# Altium footprint library Discrete Semiconductors Pad Lib.PcbLib: 56 footprints (part 1 of 4)
Each footprint in its own frame and in the unit in brackets; x right, y up, seen from the top. Pads: shape width x height; smd on the part's side, far side on the other; paste and mask are expansions set on the pad; w line width, h text height; cw(c..) or ccw(c..) is an arc to the next point about the centre after c.
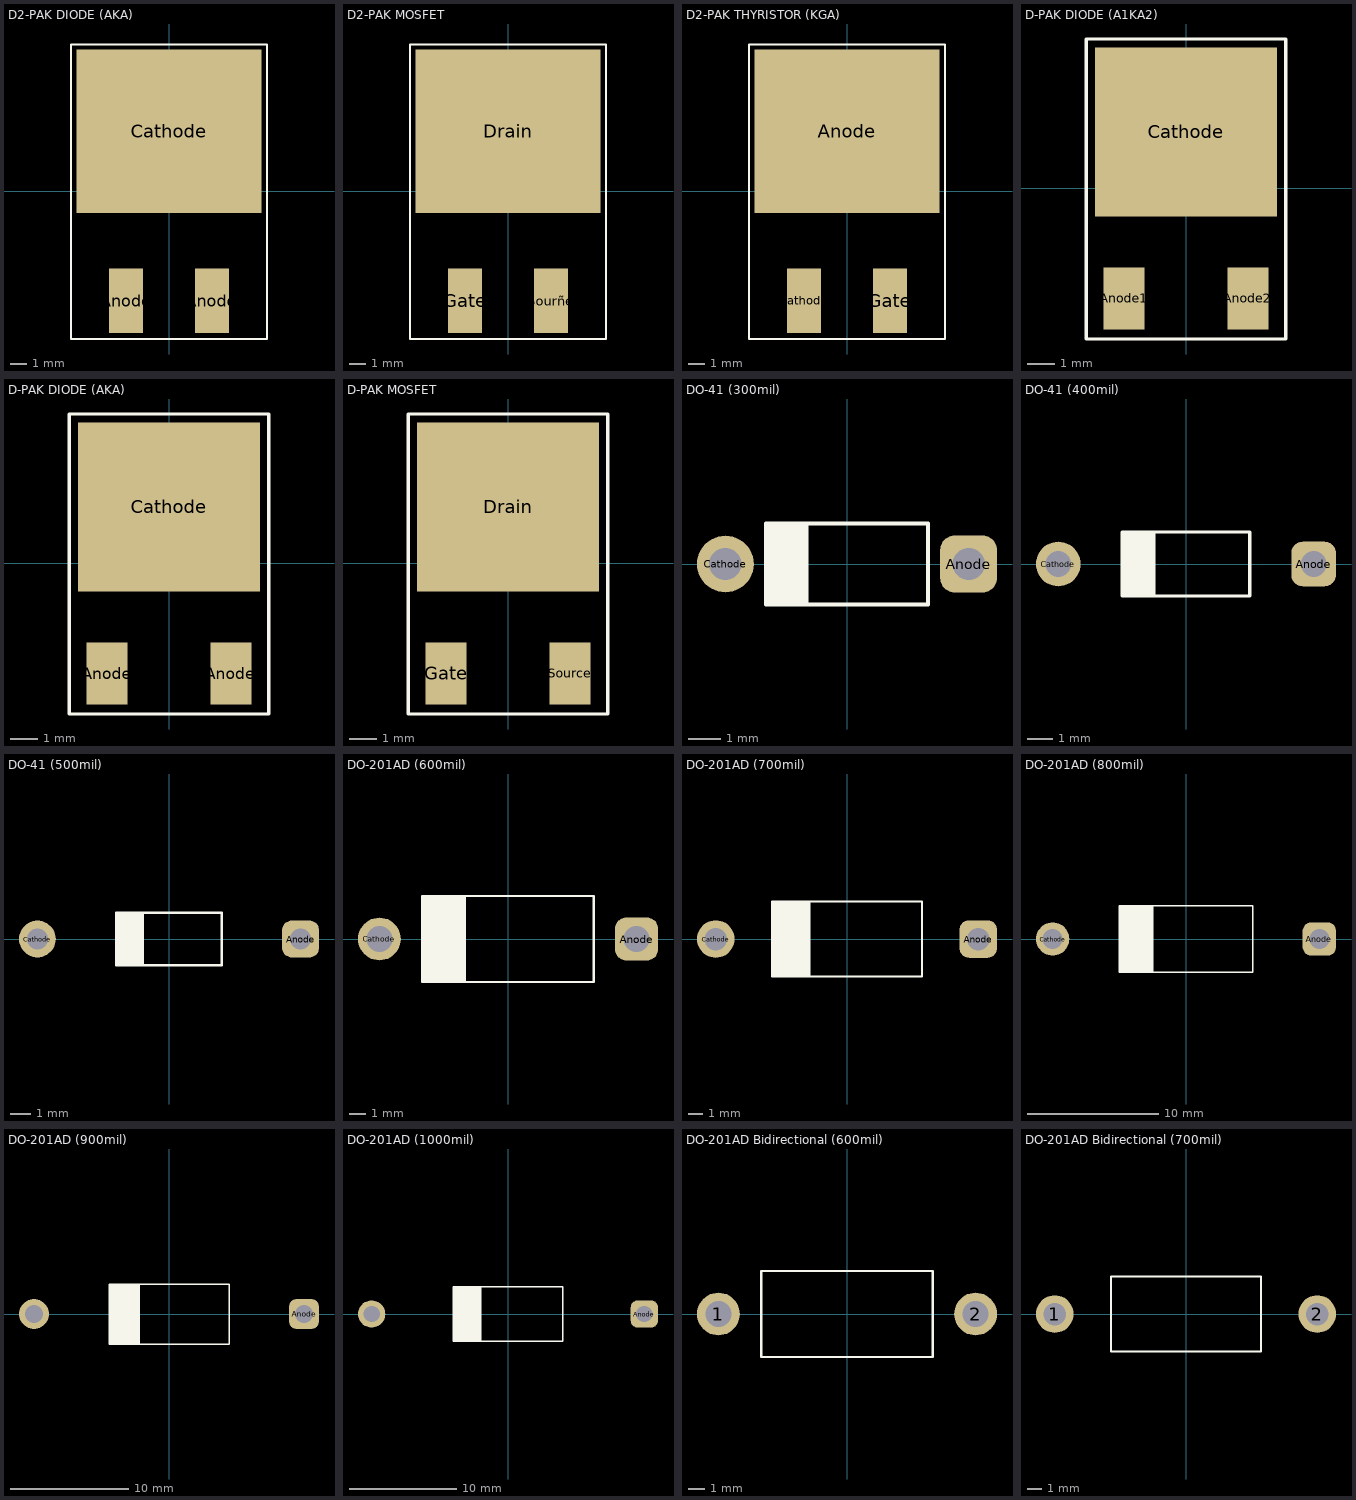
[diagram p0: the footprints below, top view; thin cyan lines are the x and y axes]

## D2-PAK DIODE (AKA) [mil] "Single Diode D2-PAK (TO-262AA)"
pads (3):
  rect 80x150 smd: Anode(-100,-255) Anode(100,-255)
  rect 430x380 smd: Cathode(0,140)
Top Overlay:
  lines w5: -228,-344 228,-344 228,342 -228,342 -228,-344
3D body: height 171, standoff -22, extent 0,0 0,0
3D body: height 171, standoff -22, extent 0,0 0,0
3D body "D2-PAK.STEP": height 188.98, standoff 0, extent -208.66,-302.2 208.67,308.04

## D2-PAK MOSFET [mil] "MOSFET D2-PAK (TO-262AA)"
pads (3):
  rect 430x380 smd: Drain(0,140)
  rect 80x150 smd: Gate(-100,-255) Sourñe(100,-255)
Top Overlay:
  lines w5: -228,-344 228,-344 228,342 -228,342 -228,-344
3D body: height 171, standoff -22, extent 0,0 0,0
3D body: height 171, standoff -22, extent 0,0 0,0
3D body "D2-PAK.STEP": height 188.98, standoff 0, extent -208.66,-302.2 208.67,308.04

## D2-PAK THYRISTOR (KGA) [mil] "Thyristor D2-PAK (TO-263AA)"
pads (3):
  rect 430x380 smd: Anode(0,140)
  rect 80x150 smd: Cathode(-100,-255) Gate(100,-255)
Top Overlay:
  lines w5: -228,-344 228,-344 228,342 -228,342 -228,-344
3D body: height 171, standoff -22, extent 0,0 0,0
3D body: height 171, standoff -22, extent 0,0 0,0
3D body "D2-PAK.STEP": height 188.98, standoff 0, extent -208.66,-302.2 208.67,308.04

## D-PAK DIODE (A1KA2) [mil] "COMMON CATHODE DOUBLE DIODE D-PAK (TO-252AA)"
pads (3):
  rect 60x90 smd: Anode1(-90,-160) Anode2(90,-160)
  rect 265x246 smd: Cathode(0,82)
Top Overlay:
  lines w5: -145,-219 -145,217 145,217 145,-219 -145,-219
3D body: height 171, standoff -22, extent 0,0 0,0
3D body: height 171, standoff -22, extent 0,0 0,0
3D body "D-PAK.STEP": height 90.55, standoff 0, extent -127.81,-180.69 127.83,193.33

## D-PAK DIODE (AKA) [mil] "Single DIODE D-PAK (TO-252AA)"
pads (3):
  rect 60x90 smd: Anode(-90,-160) Anode(90,-160)
  rect 265x246 smd: Cathode(0,82)
Top Overlay:
  lines w5: -145,-219 145,-219 145,217 -145,217 -145,-219
3D body: height 171, standoff -22, extent 0,0 0,0
3D body: height 171, standoff -22, extent 0,0 0,0
3D body "D-PAK.STEP": height 90.55, standoff 0, extent -127.81,-180.69 127.83,193.33

## D-PAK MOSFET [mil] "MOSFET D-PAK (TO-252AA)"
pads (3):
  rect 265x246 smd: Drain(0,82)
  rect 60x90 smd: Gate(-90,-160) Source(90,-160)
Top Overlay:
  lines w5: -145,-219 -145,217 145,217 145,-219 -145,-219
3D body: height 171, standoff -22, extent 0,0 0,0
3D body: height 171, standoff -22, extent 0,0 0,0
3D body "D-PAK.STEP": height 90.55, standoff 0, extent -127.81,-180.69 127.83,193.33

## DO-41 (300mil) [mil] "Diode DO-41 (DO-204AL)"
pads (2):
  rrect50% 70x70 hole 40: Anode(150,0)
  round 70 hole 40: Cathode(-150,0)
Top Overlay:
  rectangle: -100,-50 -50,50
  lines w5: -50,-50 -50,50 ; -100,-50 100,-50 100,50 -100,50 -100,-50
3D body: height 94.49, standoff 1.29, extent 0,0 0,0
3D body "DO-41 (300mil).STEP": height 99.59, standoff -78.74, extent -163.77,-47.27 163.79,47.29

## DO-41 (400mil) [mil] "Diode DO-41 (DO-204AL)"
pads (2):
  rrect50% 70x70 hole 40: Anode(200,0)
  round 70 hole 40: Cathode(-200,0)
Top Overlay:
  rectangle: -100,-50 -50,50
  lines w5: -50,-50 -50,50 ; -100,-50 -100,50 100,50 100,-50 -100,-50
3D body: height 94.49, standoff 1.29, extent 0,0 0,0
3D body "DO-41 (400mil).STEP": height 99.59, standoff -78.74, extent -213.77,-47.27 213.79,47.29

## DO-41 (500mil) [mil] "Diode DO-41 (DO-204AL)"
pads (2):
  rrect50% 70x70 hole 40: Anode(250,0)
  round 70 hole 40: Cathode(-250,0)
Top Overlay:
  rectangle: -100,-50 -50,50
  lines w5: -50,-50 -50,50 ; -100,-50 100,-50 100,50 -100,50 -100,-50
3D body: height 94.49, standoff 1.29, extent 0,0 0,0
3D body "DO-41 (500mil).STEP": height 99.6, standoff -78.74, extent -263.77,-47.27 263.79,47.29

## DO-201AD (600mil) [mil] "Diode DO-201"
pads (2):
  rrect50% 100x100 hole 60: Anode(300,0)
  round 100 hole 60: Cathode(-300,0)
Top Overlay:
  rectangle: -200,-100 -100,100
  lines w5: -100,-100 -100,100 ; -200,-100 -200,100 200,100 200,-100 -200,-100
3D body: height 94.49, standoff 1.29, extent 0,0 0,0
3D body "DO-201AD (600mil).STEP": height 198.43, standoff -100.79, extent -319.68,-98.42 319.69,98.43

## DO-201AD (700mil) [mil] "Diode DO-201"
pads (2):
  rrect50% 100x100 hole 60: Anode(350,0)
  round 100 hole 60: Cathode(-350,0)
Top Overlay:
  rectangle: -200,-100 -100,100
  lines w5: -100,-100 -100,100 ; -200,-100 200,-100 200,100 -200,100 -200,-100
3D body: height 94.49, standoff 1.29, extent 0,0 0,0
3D body "DO-201AD (700mil).STEP": height 198.43, standoff -100.79, extent -369.68,-98.42 369.69,98.43

## DO-201AD (800mil) [mil] "Diode DO-201"
pads (2):
  rrect50% 100x100 hole 60: Anode(400,0)
  round 100 hole 60: Cathode(-400,0)
Top Overlay:
  rectangle: -200,-100 -100,100
  lines w5: -100,-100 -100,100 ; -200,-100 -200,100 200,100 200,-100 -200,-100
3D body: height 94.49, standoff 1.29, extent 0,0 0,0
3D body "DO-201AD (800mil).STEP": height 198.43, standoff -100.79, extent -419.68,-98.42 419.69,98.43

## DO-201AD (900mil) [mil] "Diode DO-201"
pads (2):
  rrect50% 100x100 hole 60: Anode(450,0)
  round 100 hole 60: Cathode(-450,0)
Top Overlay:
  rectangle: -200,-100 -100,100
  lines w5: -100,-100 -100,100 ; -200,-100 -200,100 200,100 200,-100 -200,-100
3D body: height 94.49, standoff 1.29, extent 0,0 0,0
3D body "DO-201AD (900mil).STEP": height 198.43, standoff -100.79, extent -469.68,-98.42 469.69,98.43

## DO-201AD (1000mil) [mil] "Diode DO-201"
pads (2):
  rrect50% 100x100 hole 60: Anode(500,0)
  round 100 hole 60: Cathode(-500,0)
Top Overlay:
  rectangle: -200,-100 -100,100
  lines w5: -100,-100 -100,100 ; -200,-100 200,-100 200,100 -200,100 -200,-100
3D body: height 94.49, standoff 1.29, extent 0,0 0,0
3D body "DO-201AD (1000mil).STEP": height 198.43, standoff -100.79, extent -519.68,-98.42 519.69,98.43

## DO-201AD Bidirectional (600mil) [mil] "Diode DO-201"
pads (2):
  round 100 hole 60: 1(-300,0) 2(300,0)
Top Overlay:
  lines w5: -200,-100 200,-100 200,100 -200,100 -200,-100
3D body: height 94.49, standoff 1.29, extent 0,0 0,0
3D body "DO-201 BiDirection 600mil.STEP": height 198.43, standoff -100.79, extent -319.68,-98.42 319.69,98.43

## DO-201AD Bidirectional (700mil) [mil] "Diode DO-201"
pads (2):
  round 100 hole 60: 1(-350,0) 2(350,0)
Top Overlay:
  lines w5: -200,-100 200,-100 200,100 -200,100 -200,-100
3D body: height 94.49, standoff 1.29, extent 0,0 0,0
3D body "DO-201 BiDirection 700mil.STEP": height 198.43, standoff -100.79, extent -369.68,-98.42 369.69,98.43